# EAGLE library part SST25VF040B (library Spark)
4 Mbit SPI Serial Flash
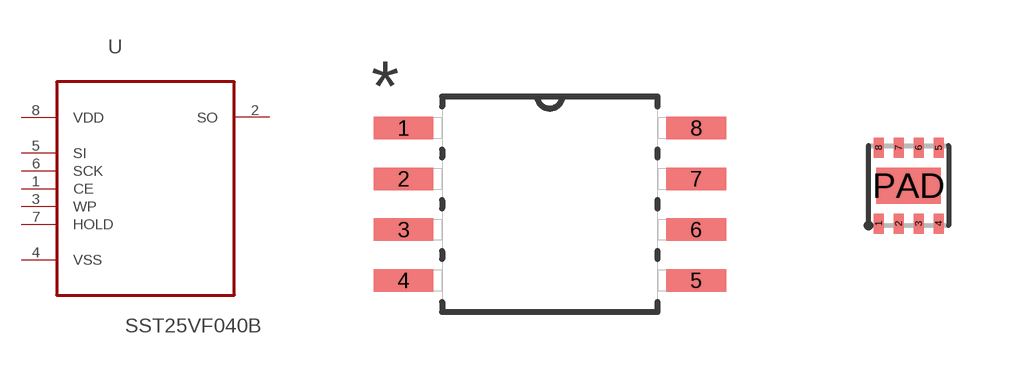
[diagram p6: symbol with the pads of SOIC127P790X216-8N; footprints SOIC127P790X216-8N, WSON-8-PAD]

Designator prefix U

## SST25VF040B-S2  [SOIC127P790X216-8N]
1  CE  in
2  SO  out
3  WP  in
4  VSS  pas
5  SI  in
6  SCK  in
7  HOLD  in
8  VDD  pwr

## SST25VF040B-Q  [WSON-8-PAD]
Pads as for SOIC127P790X216-8N

## Footprint SOIC127P790X216-8N (pad centres in mm)
smd 1.499 x 0.559: 1 -3.658,1.905; 2 -3.658,0.635; 3 -3.658,-0.635; 4 -3.658,-1.905; 5 3.658,-1.905; 6 3.658,-0.635; 7 3.658,0.635; 8 3.658,1.905

## Footprint WSON-8-PAD (pad centres in mm)
smd 0.25 x 0.5: 1 -0.75,-0.95; 2 -0.25,-0.95; 3 0.25,-0.95; 4 0.75,-0.95; 5 0.75,0.95; 6 0.25,0.95; 7 -0.25,0.95; 8 -0.75,0.95
smd 1.6 x 0.9: PAD 0,0